# Altium schematic symbol library Hirose.SchLib: 1 symbol
Pins are listed as number, name and electrical type; pins without a type are passive.

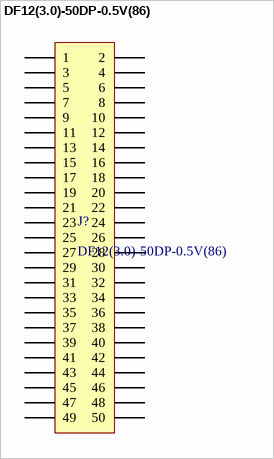
[diagram p0: symbol DF12(3.0)-50DP-0.5V(86)]

## DF12(3.0)-50DP-0.5V(86)
designator J?
Board to Board & Mezzanine Connectors 50P V SMT DR HDR 3.0MM STACK HT GOLD; Manufacturer: Hirose Connector; Current Rating: 300 mA; Mounting Angle: Vertical; Number of Positions: 50 Position; Voltage Rating: 50 V; Pitch: 0.5 mm; Stack Height: 3 mm; Supplier 1: Mouser; Supplier Part Number 1: 798-DF123050DP0.5V86; Manufacturer Part Number: DF12(3.0)-50DP-0.5V(86); RoHS: RoHS Compliant; Category: Board to Board & Mezzanine Connectors; Stock 1: 3370; Pricing 1: 1=1.50, 10=1.22, 100=1.17, 250=1.06, 500=0.968, 1000=0.836, 2000=0.710, 5000=0.674, 10000=0.659 (EUR); Contact Plating: Gold; Number of Rows: 2 Row; Packaging: Reel; Product: Headers; Series: DF12; Termination Style: SMD; Brand: Hirose Connector; Contact Material: Phosphor Copper; Standard Pack Qty: 1000; RoHS - Mouser: Y; Minimum Order Quantity: 1; Reeling: True; ComponentLink1URL: http://www.mouser.com/ds/2/185/DF12_catalog-938983.pdf; ComponentLink1Description: http://www.mouser.com/ds/2/185/DF12_catalog-938983.pdf
footprint DF12(3.0)-50DP-0.5V(86) (Board-to-board)
pins: 1, 2, 3, 4, 5, 6, 7, 8, 9, 10, 11, 12, 13, 14, 15, 16, 17, 18, 19, 20, 21, 22, 23, 24, 25, 26, 27, 28, 29, 30, 31, 32, 33, 34, 35, 36, 37, 38, 39, 40, 41, 42, 43, 44, 45, 46, 47, 48, 49, 50